# EAGLE library part POLOLU_HIGH-POWER_MOTOR_DRIVER (library ecar)
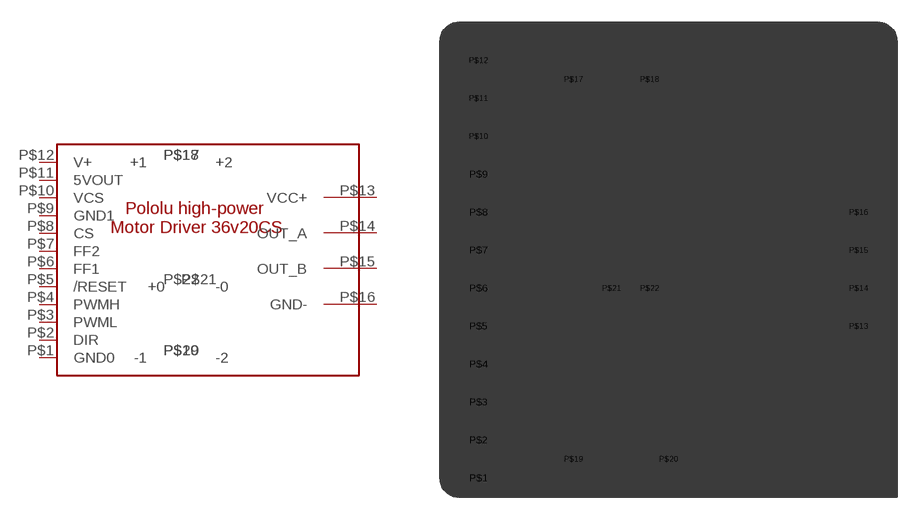
[diagram p14: symbol with the pads of POLOLU_HIGH-POWER_MOTOR; footprint POLOLU_HIGH-POWER_MOTOR]

Designator prefix -

## POLOLU_HIGH-POWER_MOTOR_DRIVER  [POLOLU_HIGH-POWER_MOTOR]
P$1  GND0
P$2  DIR
P$3  PWML
P$4  PWMH
P$5  /RESET
P$6  FF1
P$7  FF2
P$8  CS
P$9  GND1
P$10  VCS
P$11  5VOUT
P$12  V+
P$13  VCC+
P$14  OUT_A
P$15  OUT_B
P$16  GND-
P$17  +1
P$18  +2
P$19  -1
P$20  -2
P$21  +0
P$22  -0

## Footprint POLOLU_HIGH-POWER_MOTOR (pad centres in mm)
drill 0.6: P$1 1.27,1.27; P$2 1.27,3.81; P$3 1.27,6.35; P$4 1.27,8.89; P$5 1.27,11.43; P$6 1.27,13.97; P$7 1.27,16.51; P$8 1.27,19.05; P$9 1.27,21.59; P$10 1.27,24.13; P$11 1.27,26.67; P$12 1.27,29.21; P$13 26.67,11.43; P$14 26.67,13.97; P$15 26.67,16.51; P$16 26.67,19.05; P$17 7.62,27.94; P$18 12.7,27.94; P$19 7.62,2.54; P$20 13.97,2.54; P$21 10.16,13.97; P$22 12.7,13.97